# Altium footprint library SOIC-20(7.5X12.8).PcbLib: 1 footprints
Each footprint in its own frame and in the unit in brackets; x right, y up, seen from the top. Pads: shape width x height; smd on the part's side, far side on the other; paste and mask are expansions set on the pad; w line width, h text height; cw(c..) or ccw(c..) is an arc to the next point about the centre after c.
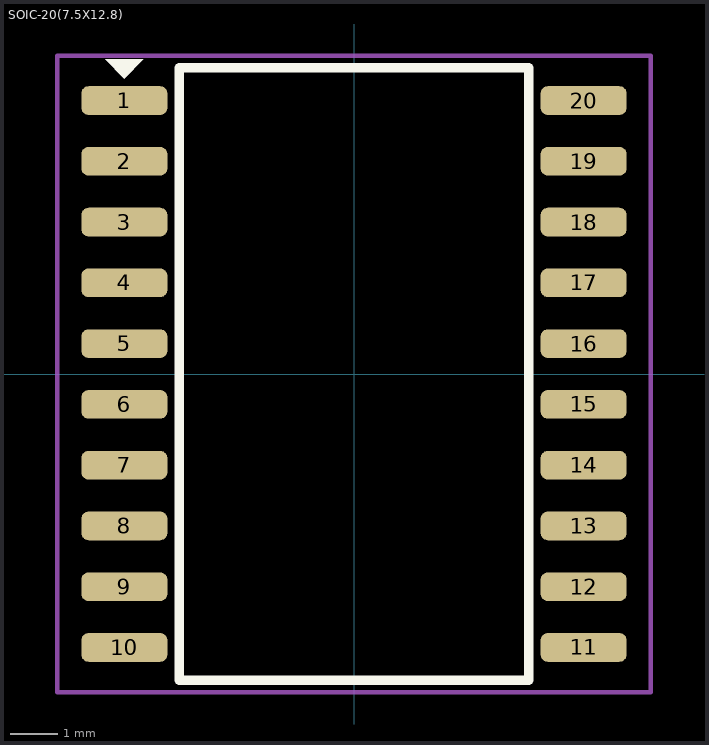
[diagram p0: the footprint, top view; thin cyan lines are the x and y axes]

## SOIC-20(7.5X12.8) [mm]
pads (20):
  rrect50% 1.8x0.6 smd: 1(-4.8,5.715) 2(-4.8,4.445) 3(-4.8,3.175) 4(-4.8,1.905) 5(-4.8,0.635) 6(-4.8,-0.635) 7(-4.8,-1.905) 8(-4.8,-3.175) 9(-4.8,-4.445) 10(-4.8,-5.715) 11(4.8,-5.715) 12(4.8,-4.445) 13(4.8,-3.175) 14(4.8,-1.905) 15(4.8,-0.635) 16(4.8,0.635) 17(4.8,1.905) 18(4.8,3.175) 19(4.8,4.445) 20(4.8,5.715)
Top Overlay:
  region: -5.2,6.575 -4.4,6.575 -4.8,6.175
  lines w0.2: -3.65,-6.4 3.65,-6.4 3.65,6.4 -3.65,6.4 -3.65,-6.4
Top Courtyard:
  lines w0.1: -6.2,-6.65 6.2,-6.65 6.2,6.65 -6.2,6.65 -6.2,-6.65
3D body "ADM3251E.STEP": height 2.6, standoff -0.05, extent -5.162,-6.4 5.163,6.4